# Altium schematic symbol library Mech.SchLib: 1 symbol
Pins are listed as number, name and electrical type; pins without a type are passive.

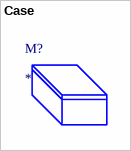
[diagram p0: symbol Case]

## Case
designator M?